# Altium footprint library db.PcbLib: 32 footprints (part 1 of 2)
Each footprint in its own frame and in the unit in brackets; x right, y up, seen from the top. Pads: shape width x height; smd on the part's side, far side on the other; paste and mask are expansions set on the pad; w line width, h text height; cw(c..) or ccw(c..) is an arc to the next point about the centre after c.
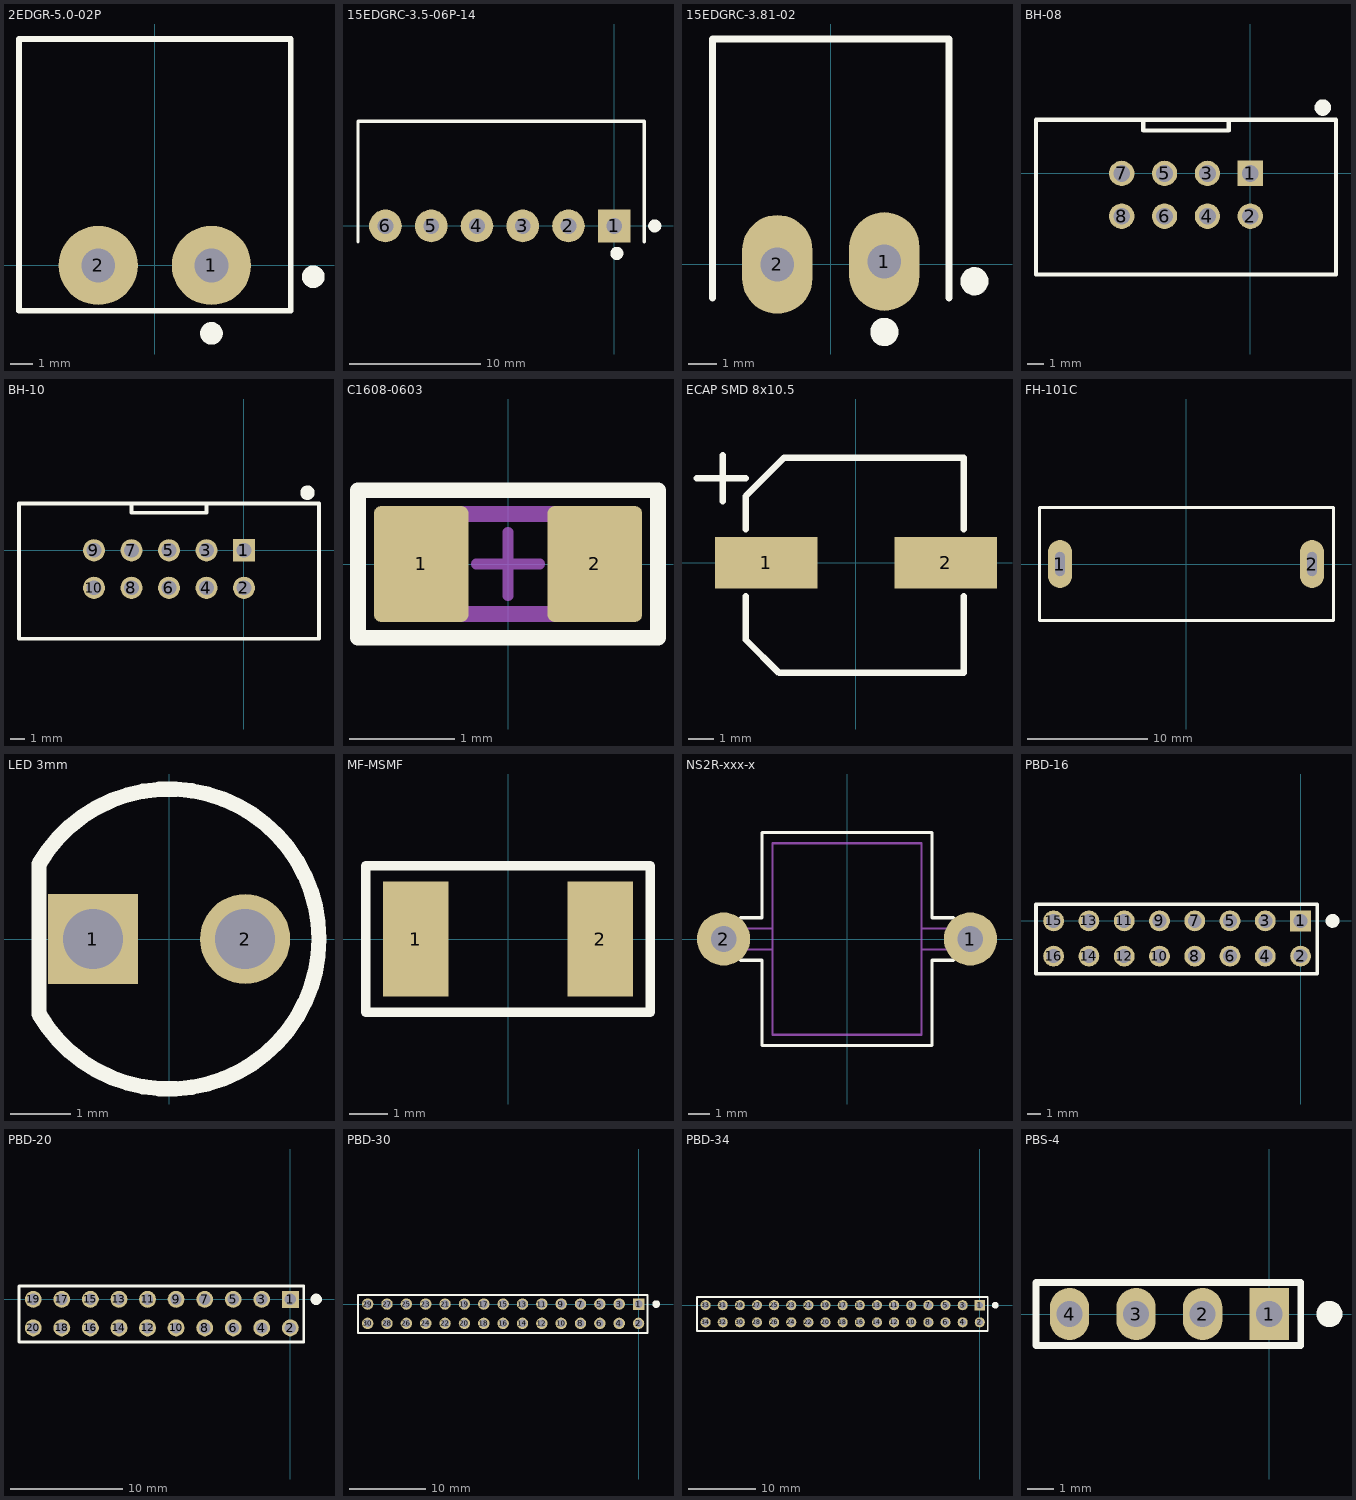
[diagram p0: the footprints below, top view; thin cyan lines are the x and y axes]

## 2EDGR-5.0-02P [mm] "Разъем на плату"
pads (2):
  round 3.5 hole 1.5: 1(2.5,0) 2(-2.5,0)
Top Overlay:
  circle w0.5: c7,-0.5 r0.25
  circle w0.5: c2.5,-3 r0.25
  lines w0.254: -6,-2 -6,10 6,10 6,-2 -6,-2
3D body "2EDGRC-5.0-02P-14-100A(H).stp": height 8.7, standoff -3, extent -6,-2 6,10

## 15EDGRC-3.5-06P-14 [mm] "Разъем на плату"
pads (6):
  rect 2.5x2.5 hole 1.2: 1(0,0)
  round 2.5 hole 1.2: 2(-3.5,0) 3(-7,0) 4(-10.5,0) 5(-14,0) 6(-17.5,0)
Top Overlay:
  circle w0.5: c3.1,0 r0.25
  circle w0.5: c0.2,-2.1 r0.25
  lines w0.254: -19.6,-1.2 -19.6,8 2.3,8 2.3,-1.2
3D body "15EDGRC-3.5-06P-14-00A(H).stp": height 7.29, standoff -4.1, extent -19.779,-1.3 2.379,7.9

## 15EDGRC-3.81-02 [mm] "Разъем на плату"
pads (2):
  oval 2.5x3.5 hole 1.2: 1(1.9,0.1) 2(-1.9,0)
Top Overlay:
  circle w0.5: c5.1,-0.6 r0.25
  circle w0.5: c1.9,-2.4 r0.25
  lines w0.254: -4.2,-1.2 -4.2,8 4.2,8 4.2,-1.2
3D body "15EDGRC-3.81-02P-14-00A(H).stp": height 7.29, standoff -3.35, extent -4.3,-1.2 4.11,8

## BH-08 [mm] "Разъем на плату"
pads (8):
  rect 1.5x1.5 hole 1: 1(0,0)
  round 1.5 hole 1: 2(0,-2.54) 3(-2.54,0) 4(-2.54,-2.54) 5(-5.08,0) 6(-5.08,-2.54) 7(-7.62,0) 8(-7.62,-2.54)
Top Overlay:
  circle w0.5: c4.3,3.9 r0.24
  lines w0.254: -6.35,3.175 -6.35,2.54 -1.27,2.54 -1.27,3.175 ; -12.7,-5.995 -12.7,3.175 5.08,3.175 5.08,-5.995 -12.7,-5.995
3D body "BH-08.STEP": height 8.8, standoff -3.2, extent -12.69,-5.925 5.07,3.175

## BH-10 [mm] "Разъем на плату"
pads (10):
  rect 1.5x1.5 hole 1: 1(0,0)
  round 1.5 hole 1: 2(0,-2.54) 3(-2.54,0) 4(-2.54,-2.54) 5(-5.08,0) 6(-5.08,-2.54) 7(-7.62,0) 8(-7.62,-2.54) 9(-10.16,0) 10(-10.16,-2.54)
Top Overlay:
  circle w0.5: c4.3,3.9 r0.24
  lines w0.254: -7.62,3.175 -7.62,2.54 -2.54,2.54 -2.54,3.175 ; -15.24,-5.995 5.08,-5.995 5.08,3.175 -15.24,3.175 -15.24,-5.995
3D body "BH-10.STEP": height 8.8, standoff -3.2, extent -15.2,-6.05 5.1,3.05

## C1608-0603 [mm] "Chip Resistor; Body 1.6 x 0.8 mm (LxW typ)"
height 0.9
pads (2):
  rrect15% 0.9x1.1 smd paste-0.05 mask+0.05: 1(-0.825,0) 2(0.825,0)
Top Overlay:
  lines w0.15: -1.425,-0.7 1.425,-0.7 1.425,0.7 -1.425,0.7 -1.425,-0.7
Mechanical 13:
  lines w0.15: -0.525,-0.475 -0.525,0.475 ; 0.525,-0.475 0.525,0.475 ; -0.825,-0.475 0.825,-0.475 0.825,0.475 -0.825,0.475 -0.825,-0.475
Mechanical 15:
  lines w0.1: -0.3,0 0.3,0 ; 0,-0.3 0,0.3
3D body "User Library-0603 SMD Capacitor.step": height 0.3, standoff 0, extent -0.8,-0.4 0.8,0.4

## ECAP SMD 8x10.5 [mm]
pads (2):
  rect 4x2 smd: 1(-3.5,0) 2(3.5,0)
Top Overlay:
  lines w0.254: -6.2,3.3 -4.3,3.3 ; -5.2,2.4 -5.2,4.2 ; -4.3,-1.3 -4.3,-3 -3,-4.3 4.2,-4.3 4.2,-1.3 ; -4.3,1.3 -4.3,2.6 -2.8,4.1 4.2,4.1 4.2,1.3
3D body "capae-8.35x8.35h10.2.step": height 10.2, standoff 0, extent -4.55,-4.275 4.55,4.075

## FH-101C [mm]
pads (2):
  oval 2x4 hole 0.8 slot 2 at 90 deg: 1(-10.5,0) 2(10.5,0)
Top Overlay:
  lines w0.254: -12.2,-4.7 -12.2,4.7 12.3,4.7 12.3,-4.7 -12.2,-4.7
3D body "FH-101C.stp": height 13.5, standoff -4.5, extent -13.25,-4.9 13.25,4.9

## LED 3mm [mm]
pads (2):
  rect 1.5x1.5 hole 1: 1(-1.27,0)
  round 1.5 hole 1: 2(1.27,0)
Top Overlay:
  lines w0.254: -2.165,-1.25 ccw(c0,0) -2.165,1.25 -2.165,-1.25
3D body "User Library-LED 3mm Red 3mm Leads.STEP": height 3.89, standoff -2.99, extent -1.572,-1.815 1.873,2.032

## MF-MSMF [mm]
height 1
pads (2):
  rect 1.7x3 smd: 1(-2.4,0) 2(2.4,0)
Top Overlay:
  lines w0.25: -3.7,-1.9 -3.7,1.9 3.7,1.9 3.7,-1.9 -3.7,-1.9
3D body "MF-MSMF-C0.85.stp": height 0.85, standoff 0, extent -2.365,-1.705 2.365,1.705

## NS2R-xxx-x [mm]
pads (2):
  round 2.5 hole 1.2: 1(5.8,0) 2(-5.8,0)
Top Overlay:
  lines w0.15: -5,-1 -4,-1 -4,-5 4,-5 4,-1 5,-1 ; -5,1 -4,1 -4,5 4,5 4,1 5,1
Mechanical 7:
  lines w0.1: -3.5,-0.5 -6.5,-0.5 -6.5,0.5 -3.5,0.5 ; 3.5,-0.5 6.5,-0.5 6.5,0.5 3.5,0.5 ; -3.5,-4.5 3.5,-4.5 3.5,4.5 -3.5,4.5 -3.5,-4.5
3D body "User Library-GAS TUBE, 470V, 20KA, 2-ELECTRODE, BOURNS 2027-47-C10.step": height 8, standoff -4.22, extent -6.35,-3.979 6.35,4.021

## PBD-16 [mm] "Разъем на плату"
pads (16):
  rect 1.5x1.5 hole 1: 1(0,0)
  round 1.5 hole 1: 2(0,-2.54) 3(-2.54,0) 4(-2.54,-2.54) 5(-5.08,0) 6(-5.08,-2.54) 7(-7.62,0) 8(-7.62,-2.54) 9(-10.16,0) 10(-10.16,-2.54) 11(-12.7,0) 12(-12.7,-2.54) 13(-15.24,0) 14(-15.24,-2.54) 15(-17.78,0) 16(-17.78,-2.54)
Top Overlay:
  circle w0.5: c2.3,0 r0.25
  lines w0.254: -19.05,-3.81 -19.05,1.2 1.2,1.2 1.2,-3.81 -19.05,-3.81
3D body "PBD-16.step": height 8.5, standoff -3, extent -19.05,-3.81 1.27,1.27

## PBD-20 [mm] "Разъем на плату"
pads (20):
  rect 1.5x1.5 hole 1: 1(0,0)
  round 1.5 hole 1: 2(0,-2.54) 3(-2.54,0) 4(-2.54,-2.54) 5(-5.08,0) 6(-5.08,-2.54) 7(-7.62,0) 8(-7.62,-2.54) 9(-10.16,0) 10(-10.16,-2.54) 11(-12.7,0) 12(-12.7,-2.54) 13(-15.24,0) 14(-15.24,-2.54) 15(-17.78,0) 16(-17.78,-2.54) 17(-20.32,0) 18(-20.32,-2.54) 19(-22.86,0) 20(-22.86,-2.54)
Top Overlay:
  circle w0.5: c2.3,0 r0.25
  lines w0.254: -24.13,-3.81 -24.13,1.2 1.2,1.2 1.2,-3.81 -24.13,-3.81
3D body "PBD-20.step": height 8.5, standoff -3, extent -24.13,-3.81 1.27,1.27

## PBD-30 [mm] "Разъем на плату"
pads (30):
  rect 1.5x1.5 hole 1: 1(0,0)
  round 1.5 hole 1: 2(0,-2.54) 3(-2.54,0) 4(-2.54,-2.54) 5(-5.08,0) 6(-5.08,-2.54) 7(-7.62,0) 8(-7.62,-2.54) 9(-10.16,0) 10(-10.16,-2.54) 11(-12.7,0) 12(-12.7,-2.54) 13(-15.24,0) 14(-15.24,-2.54) 15(-17.78,0) 16(-17.78,-2.54) 17(-20.32,0) 18(-20.32,-2.54) 19(-22.86,0) 20(-22.86,-2.54) 21(-25.4,0) 22(-25.4,-2.54) 23(-27.94,0) 24(-27.94,-2.54) 25(-30.48,0) 26(-30.48,-2.54) 27(-33.02,0) 28(-33.02,-2.54) 29(-35.56,0) 30(-35.56,-2.54)
Top Overlay:
  circle w0.5: c2.3,0 r0.25
  lines w0.254: -36.83,-3.81 -36.83,1.2 1.2,1.2 1.2,-3.81 -36.83,-3.81
3D body "PBD-30.step": height 8.5, standoff -3, extent -36.83,-3.81 1.27,1.27

## PBD-34 [mm] "Разъем на плату"
pads (34):
  rect 1.5x1.5 hole 1: 1(0,0)
  round 1.5 hole 1: 2(0,-2.54) 3(-2.54,0) 4(-2.54,-2.54) 5(-5.08,0) 6(-5.08,-2.54) 7(-7.62,0) 8(-7.62,-2.54) 9(-10.16,0) 10(-10.16,-2.54) 11(-12.7,0) 12(-12.7,-2.54) 13(-15.24,0) 14(-15.24,-2.54) 15(-17.78,0) 16(-17.78,-2.54) 17(-20.32,0) 18(-20.32,-2.54) 19(-22.86,0) 20(-22.86,-2.54) 21(-25.4,0) 22(-25.4,-2.54) 23(-27.94,0) 24(-27.94,-2.54) 25(-30.48,0) 26(-30.48,-2.54) 27(-33.02,0) 28(-33.02,-2.54) 29(-35.56,0) 30(-35.56,-2.54) 31(-38.1,0) 32(-38.1,-2.54) 33(-40.64,0) 34(-40.64,-2.54)
Top Overlay:
  circle w0.5: c2.3,0 r0.25
  lines w0.254: -41.91,-3.81 1.2,-3.81 1.2,1.2 -41.91,1.2 -41.91,-3.81
3D body "PBD-34.step": height 8.5, standoff -3, extent -41.91,-3.81 1.27,1.27

## PBS-4 [mm] "Разъем на плату"
pads (4):
  rect 1.5x2 hole 1: 1(0,0)
  oval 1.5x2 hole 1: 2(-2.54,0) 3(-5.08,0) 4(-7.62,0)
Top Overlay:
  circle w0.5: c2.3,0 r0.25
  lines w0.254: -8.9,-1.2 -8.9,1.2 1.2,1.2 1.2,-1.2 -8.9,-1.2
3D body "PBS-4.step": height 8.5, standoff -3, extent -8.89,-1.27 1.27,1.27